# Altium schematic symbol library YatCPU.SchLib: 44 symbols
Pins are listed as number, name and electrical type; pins without a type are passive.

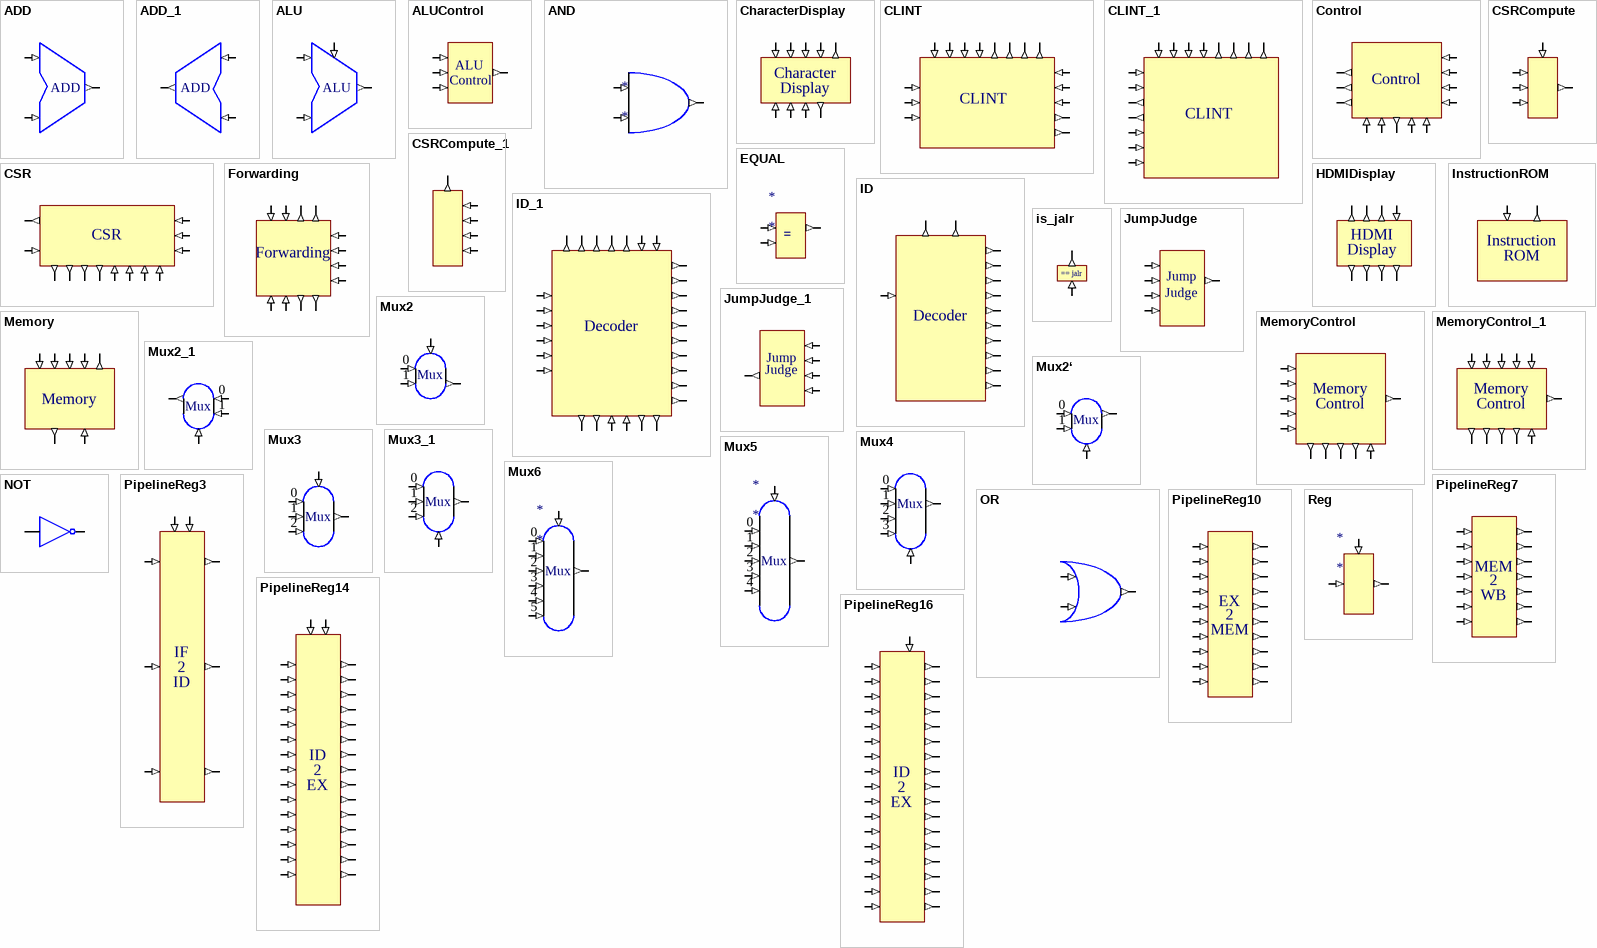
[diagram p0: symbols ADD to Reg]

## ADD
designator *  (value not drawn)
pins: 0 in0 (in), 1 in1 (in), 2 out (out)

## ADD_1
designator *  (value not drawn)
pins: 0 in0 (in), 1 in1 (in), 2 out (out)
text: ADD

## ALU
designator *  (value not drawn)
pins: 0 in0 (in), 1 in1 (in), 2 out (out), 3 (in)

## ALUControl
designator *  (value not drawn)
pins: 38 (in), 39 (in), 40 (in), 41 (out)
text: ALU; Control

## AND
designator *
pins: 1 (in), 2 (in), 3 (out)

## CharacterDisplay
designator *  (value not drawn)
pins: 43 (in), 43 (in), 43 (in), 43 (in), 44 (out), 45 (out), 46 (in), 47 (in), 48 (in)
text: Character; Display

## CLINT
designator *  (value not drawn)
pins: 15 (in), 15 (in), 16 (in), 17 (in), 18 (out), 19 (out), 20 (out), 21 (out), 22 (in), 23 (in), 24 (out), 25 (out), 26 (in), 27 (in), 28 (in), 29 (in)

## CLINT_1
designator *  (value not drawn)
pins: 15 (in), 15 (in), 16 (in), 17 (in), 18 (out), 19 (out), 20 (out), 21 (out), 22 (in), 23 (out), 24 (out), 25 (in), 26 (in), 27 (in), 28 (in)
text: CLINT

## Control
designator *  (value not drawn)
pins: 50 (out), 51 (out), 52 (out), 53 (in), 54 (in), 56 (in), 57 (in), 58 (in), 59 (in), 60 (out), 61 (in), 62 (in)

## CSR
designator *  (value not drawn)
pins: 22 (in), 23 (in), 24 (in), 27 (out), 28 (in), 29 (out), 29 (out), 30 (out), 31 (out), 32 (in), 33 (in), 34 (in), 35 (in)

## CSRCompute
designator *  (value not drawn)
pins: 36 (in), 37 (in), 38 (in), 39 (in), 40 (out)

## CSRCompute_1
designator *  (value not drawn)
pins: 36 (in), 37 (in), 38 (in), 39 (out), 40 (in)

## EQUAL
designator *
pins: 35 (in), 36 (in), 37 (out)

## Forwarding
designator *  (value not drawn)
pins: 39 (in), 40 (in), 41 (in), 42 (out), 43 (out), 44 (in), 45 (in), 46 (in), 47 (in), 48 (out), 49 (out), 50 (in)

## HDMIDisplay
designator *  (value not drawn)
pins: 43 (out), 43 (out), 43 (out), 44 (in), 45 (out), 46 (out), 47 (out), 48 (out)
text: HDMI; Display

## ID
designator *  (value not drawn)
pins: 11 (in), 12 (out), 13 (out), 14 (out), 15 (out), 16 (out), 17 (out), 18 (out), 19 (out), 20 (out), 21 (out), 22 (out), 23 (out)
text: Decoder

## ID_1
designator *  (value not drawn)
pins: 11 (in), 12 (out), 13 (out), 14 (out), 15 (out), 16 (out), 17 (out), 18 (out), 19 (out), 20 (out), 21 (out), 22 (out), 23 (out), 25 (in), 26 (in), 27 (in), 28 (in), 29 (in), 31 (in), 32 (in), 33 (out), 34 (out), 35 (out), 36 (in), 37 (in), 38 (out), 39 (out), 40 (out), 41 (out)
text: Decoder

## InstructionROM
designator *  (value not drawn)
pins: 43 (in), 44 (out)
text: Instruction; ROM

## is_jalr
designator *  (value not drawn)
pins: 63 (in), 64 (out)

## JumpJudge
designator *  (value not drawn)
pins: 36 (in), 37 (in), 38 (in), 39 (in), 40 (out)
text: Jump; Judge

## JumpJudge_1
designator *  (value not drawn)
pins: 36 (in), 37 (in), 38 (in), 39 (in), 40 (out)
text: Jump; Judge

## Memory
designator *  (value not drawn)
pins: 43 (in), 43 (in), 43 (in), 43 (in), 44 (out), 45 (out), 46 (in)

## MemoryControl
designator *  (value not drawn)
pins: 4 (in), 5 (in), 6 (in), 7 (in), 8 (in), 9 (out), 10 (out), 11 (out), 12 (out), 13 (in), 14 (out)
text: Memory; Control

## MemoryControl_1
designator *  (value not drawn)
pins: 4 (in), 5 (in), 6 (in), 7 (in), 8 (in), 9 (out), 10 (out), 11 (out), 12 (out), 13 (in), 14 (out)
text: Memory; Control

## Mux2
designator *  (value not drawn)
pins: 0 in0 (in), 1 in1 (in), 2 out (out), 3 select (in)
text: Mux

## Mux2_1
designator *  (value not drawn)
pins: 0 in0 (in), 1 in1 (in), 2 out (out), 3 select (in)
text: Mux

## Mux2‘
designator *  (value not drawn)
pins: 0 in0 (in), 1 in1 (in), 2 out (out), 3 select (in)
text: Mux

## Mux3
designator *  (value not drawn)
pins: 0 in0 (in), 1 in1 (in), 2 in2 (in), 3 out (out), 4 select (in)
text: Mux

## Mux3_1
designator *  (value not drawn)
pins: 0 in0 (in), 1 in1 (in), 2 in2 (in), 3 out (out), 4 select (in)
text: Mux

## Mux4
designator *  (value not drawn)
pins: 0 in0 (in), 1 in1 (in), 2 in1 (in), 3 in3 (in), 4 out (out), 5 select (in)
text: Mux

## Mux5
designator *
pins: 0 in0 (in), 1 in1 (in), 2 in2 (in), 3 in3 (in), 4 in4 (in), 5 out (out), 6 select (in)
text: Mux

## Mux6
designator *
pins: 0 in0 (in), 1 in1 (in), 2 in2 (in), 3 in3 (in), 4 in4 (in), 5 in5 (in), 6 out (out), 7 select (in)
text: Mux

## NOT
designator *  (value not drawn)
pins: 41, 42

## OR
designator *  (value not drawn)
pins: 1 (in), 2 (in), 3 (out)

## PipelineReg3
designator *  (value not drawn)
pins: 2 in (in), 3 in (in), 5 in (in), 6 (out), 7 (out), 8 (out), 9 WriteEnable (in), 10 (in)
text: IF; ID

## PipelineReg7
designator *  (value not drawn)
pins: 2 in (in), 12 (out), 13 (out), 14 (out), 15 (out), 16 (out), 17 (out), 18 (out), 23 (in), 24 (in), 25 (in), 26 (in), 27 (in), 28 (in)
text: MEM; WB

## PipelineReg10
designator *  (value not drawn)
pins: 2 in (in), 3 in (in), 7 (out), 12 (out), 13 (out), 14 (out), 15 (out), 16 (out), 17 (out), 18 (out), 19 (out), 20 (out), 23 (in), 24 (in), 25 (in), 26 (in), 27 (in), 28 (in), 29 (in), 30 (in)
text: EX; MEM

## PipelineReg14
designator *  (value not drawn)
pins: 2 in (in), 3 in (in), 5 in (in), 6 (out), 7 (out), 8 (out), 9 WriteEnable (in), 10 FlushEnable (in), 11 (out), 12 (out), 13 (out), 14 (out), 15 (out), 16 (out), 17 (out), 18 (out), 19 (out), 20 (out), 21 (out), 22 (out), 23 (in), 24 (in), 25 (in), 26 (in), 27 (in), 28 (in), 29 (in), 30 (in), 31 (in), 32 (in), 33 (in), 34 (in)
text: ID; EX

## PipelineReg16
designator *  (value not drawn)
pins: 2 in (in), 3 in (in), 5 in (in), 6 (out), 7 (out), 8 (out), 10 FlushEnable (in), 11 (out), 12 (out), 13 (out), 14 (out), 15 (out), 16 (out), 17 (out), 18 (out), 19 (out), 20 (out), 21 (out), 22 (out), 23 (in), 24 (in), 25 (in), 26 (in), 27 (in), 28 (in), 29 (in), 30 (in), 31 (in), 32 (in), 33 (in), 34 (in), 35 (out), 36 (out), 37 (in), 38 (in)
text: ID; EX

## Reg
designator *
pins: 0 IN (in), 1 OUT (out), 2 EN (in)

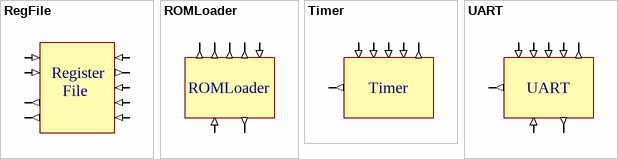
[diagram p1: symbols RegFile to UART]

## RegFile
designator *  (value not drawn)
pins: 28 (in), 29 (in), 30 (out), 31 (out), 32 (in), 33 (in), 34 (in), 35 (in), 36 (out)
text: Register; File

## ROMLoader
designator *  (value not drawn)
pins: 43 (out), 43 (out), 43 (out), 43 (out), 44 (in), 45 (out), 46 (in)

## Timer
designator *  (value not drawn)
pins: 43 (in), 43 (in), 43 (in), 43 (in), 44 (out), 45 (out)

## UART
designator *  (value not drawn)
pins: 43 (in), 43 (in), 43 (in), 43 (in), 44 (out), 45 (out), 46 (in), 47 (out)